# Altium footprint library QFN21P50_400X400X80L40X25T200N.PcbLib: 1 footprints
Each footprint in its own frame and in the unit in brackets; x right, y up, seen from the top. Pads: shape width x height; smd on the part's side, far side on the other; paste and mask are expansions set on the pad; w line width, h text height; cw(c..) or ccw(c..) is an arc to the next point about the centre after c.
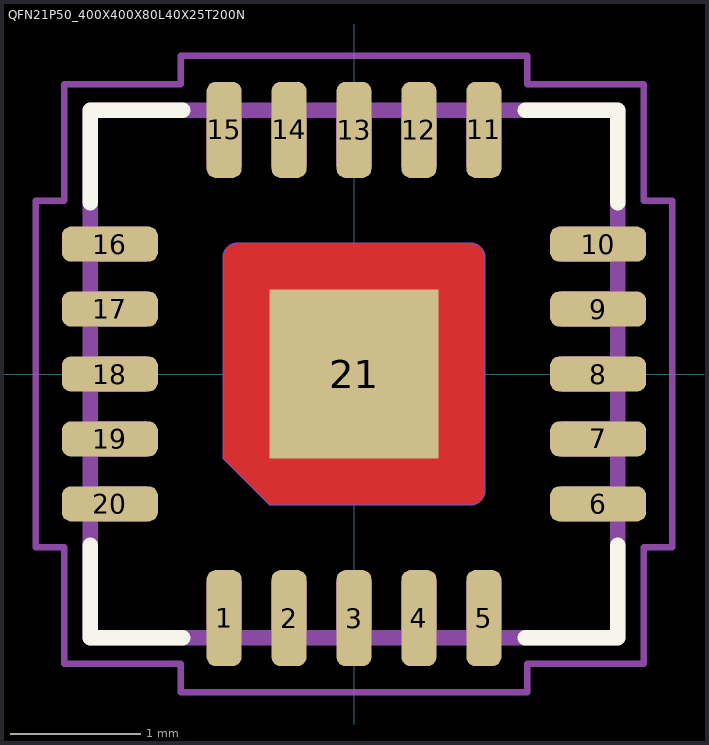
[diagram p0: the footprint, top view; thin cyan lines are the x and y axes]

## QFN21P50_400X400X80L40X25T200N [mm] "Quad Flat No-Lead (QFN with Tab), 0.50 mm pitch; square, 5 pin X 5 pin, 4.00 mm L X 4.00 mm W X 0.80 mm H body"
height 0.8
pads (21):
  rrect52% 0.27x0.74 smd: 1(-1,-1.88) 2(-0.5,-1.88) 3(0,-1.88) 4(0.5,-1.88) 5(1,-1.88) 11(1,1.88) 12(0.5,1.88) 13(0,1.88) 14(-0.5,1.88) 15(-1,1.88)
  rrect52% 0.74x0.27 smd: 6(1.88,-1) 7(1.88,-0.5) 8(1.88,0) 9(1.88,0.5) 10(1.88,1) 16(-1.88,1) 17(-1.88,0.5) 18(-1.88,0) 19(-1.88,-0.5) 20(-1.88,-1)
  rect 1.3x1.3 smd paste-1.3 mask+0: 21(0,0)
Top Layer:
  region: 1,0 1,-0.9 0.999,-0.916 0.995,-0.931 0.989,-0.945 0.981,-0.959 0.971,-0.971 0.959,-0.981 0.945,-0.989 0.931,-0.995 0.916,-0.999 -0.65,-1 -1,-0.65 -1,0.9 -0.999,0.916 -0.995,0.931 -0.989,0.945 -0.981,0.959 -0.971,0.971 -0.959,0.981 -0.945,0.989 -0.931,0.995 -0.916,0.999 0.9,1 0.916,0.999 0.931,0.995 0.945,0.989 0.959,0.981 0.971,0.971 0.981,0.959 0.989,0.945 0.995,0.931 0.999,0.916 1,0.9
Top Overlay:
  lines w0.12: -2.03,-1.32 -2.03,-2.03 -1.32,-2.03 ; -2.03,1.32 -2.03,2.03 -1.32,2.03 ; 1.32,-2.03 2.03,-2.03 2.03,-1.32 ; 1.32,2.03 2.03,2.03 2.03,1.32
Top Paste:
  region: 0.81,-0.81 0.1,-0.81 0.1,-0.1 0.81,-0.1
  region: 0.81,0.1 0.1,0.1 0.1,0.81 0.81,0.81
  region: -0.1,-0.81 -0.81,-0.81 -0.81,-0.1 -0.1,-0.1
  region: -0.1,0.1 -0.81,0.1 -0.81,0.81 -0.1,0.81
Top Solder:
  region: 1,0 1,-0.9 0.999,-0.916 0.995,-0.931 0.989,-0.945 0.981,-0.959 0.971,-0.971 0.959,-0.981 0.945,-0.989 0.931,-0.995 0.916,-0.999 -0.65,-1 -1,-0.65 -1,0.9 -0.999,0.916 -0.995,0.931 -0.989,0.945 -0.981,0.959 -0.971,0.971 -0.959,0.981 -0.945,0.989 -0.931,0.995 -0.916,0.999 0.9,1 0.916,0.999 0.931,0.995 0.945,0.989 0.959,0.981 0.971,0.971 0.981,0.959 0.989,0.945 0.995,0.931 0.999,0.916 1,0.9
Mechanical 11:
  lines w0.12: -2.03,-2.03 -2.03,2.03 2.03,2.03 2.03,-2.03 -2.03,-2.03
Mechanical 12:
  lines w0.025: -2,-2 -2,2 2,2 2,-2 -2,-2 ; -2,-1.125 -1.6,-1.125 -1.6,-0.875 -2,-0.875 -2,-1.125 ; -2,-0.625 -1.6,-0.625 -1.6,-0.375 -2,-0.375 -2,-0.625 ; -2,-0.125 -1.6,-0.125 -1.6,0.125 -2,0.125 -2,-0.125 ; -2,0.375 -1.6,0.375 -1.6,0.625 -2,0.625 -2,0.375 ; -2,0.875 -1.6,0.875 -1.6,1.125 -2,1.125 -2,0.875 ; -1.125,-2 -0.875,-2 -0.875,-1.6 -1.125,-1.6 -1.125,-2 ; -1.125,1.6 -0.875,1.6 -0.875,2 -1.125,2 -1.125,1.6 ; -1,-0.65 -1,0.9 cw(c-0.9,0.9) -0.9,1 0.9,1 cw(c0.9,0.9) 1,0.9 1,-0.9 cw(c0.9,-0.9) 0.9,-1 -0.65,-1 -1,-0.65 ; -0.625,-2 -0.375,-2 -0.375,-1.6 -0.625,-1.6 -0.625,-2 ; -0.625,1.6 -0.375,1.6 -0.375,2 -0.625,2 -0.625,1.6 ; -0.125,-2 0.125,-2 0.125,-1.6 -0.125,-1.6 -0.125,-2 ; -0.125,1.6 0.125,1.6 0.125,2 -0.125,2 -0.125,1.6 ; 0.375,-2 0.625,-2 0.625,-1.6 0.375,-1.6 0.375,-2 ; 0.375,1.6 0.625,1.6 0.625,2 0.375,2 0.375,1.6 ; 0.875,-2 1.125,-2 1.125,-1.6 0.875,-1.6 0.875,-2 ; 0.875,1.6 1.125,1.6 1.125,2 0.875,2 0.875,1.6 ; 1.6,-1.125 1.6,-0.875 2,-0.875 2,-1.125 1.6,-1.125 ; 1.6,-0.625 1.6,-0.375 2,-0.375 2,-0.625 1.6,-0.625 ; 1.6,-0.125 1.6,0.125 2,0.125 2,-0.125 1.6,-0.125 ; 1.6,0.375 1.6,0.625 2,0.625 2,0.375 1.6,0.375 ; 1.6,0.875 1.6,1.125 2,1.125 2,0.875 1.6,0.875
Mechanical 15:
  circle w0.05: c0,0 r0.25
  lines w0.05: -0.35,0 0.35,0 ; 0,-0.35 0,0.35 ; -2.45,-1.335 -2.45,1.335 -2.23,1.335 -2.23,2.23 -1.335,2.23 -1.335,2.45 1.335,2.45 1.335,2.23 2.23,2.23 2.23,1.335 2.45,1.335 2.45,-1.335 2.23,-1.335 2.23,-2.23 1.335,-2.23 1.335,-2.45 -1.335,-2.45 -1.335,-2.23 -2.23,-2.23 -2.23,-1.335 -2.45,-1.335
Mechanical 16:
  text ".Designator" at 0,0 h1.2